# Altium schematic symbol library TL2575HV-xx-TO263.SchLib: 1 symbol
Pins are listed as number, name and electrical type; pins without a type are passive.

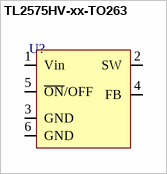
[diagram p0: symbol TL2575HV-xx-TO263]

## TL2575HV-xx-TO263
designator U?  (value not drawn)
pins: 1 Vin, 2 SW, 3 GND, 4 FB, 5 ~{ON}/OFF, 6 GND